# EAGLE library part LT3800 (library linear-technology)
Step Down Switcher High-Voltage Synchronous Current Mode
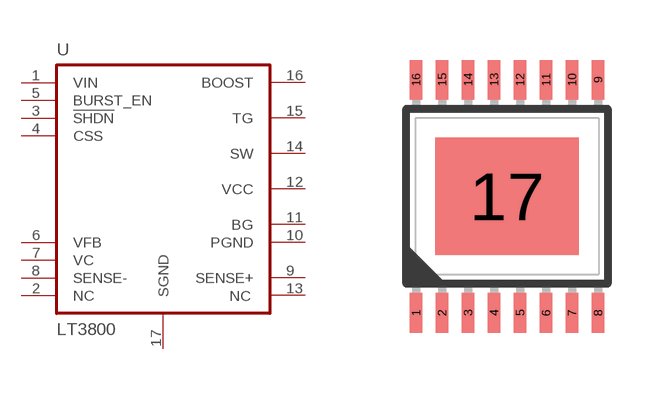
[diagram p22: symbol with the pads of TSSOP16-BC; footprint TSSOP16-BC]

Designator prefix U

## LT3800  [TSSOP16-BC]
1  VIN  in
2  NC  nc
3  !SHDN!  in
4  CSS
5  BURST_EN
6  VFB
7  VC
8  SENSE-  in
9  SENSE+  in
10  PGND
11  BG  out
12  VCC
13  NC2  nc
14  SW
15  TG
16  BOOST
17  SGND  pwr

## Footprint TSSOP16-BC (pad centres in mm)
TSSOP16-BC - FE Package Exposed pad variation BC
smd 0.305 x 0.991: 1 -2.275,-2.918; 2 -1.625,-2.918; 3 -0.975,-2.918; 4 -0.325,-2.918; 5 0.325,-2.918; 6 0.975,-2.918; 7 1.625,-2.918; 8 2.275,-2.918; 9 2.275,2.918; 10 1.625,2.918; 11 0.975,2.918; 12 0.325,2.918; 13 -0.325,2.918; 14 -0.975,2.918; 15 -1.625,2.918; 16 -2.275,2.918
smd 3.58 x 2.94: 17 0,0